# Altium footprint library TSON-Advance-8(3.1X3.1).PcbLib: 1 footprints
Each footprint in its own frame and in the unit in brackets; x right, y up, seen from the top. Pads: shape width x height; smd on the part's side, far side on the other; paste and mask are expansions set on the pad; w line width, h text height; cw(c..) or ccw(c..) is an arc to the next point about the centre after c.
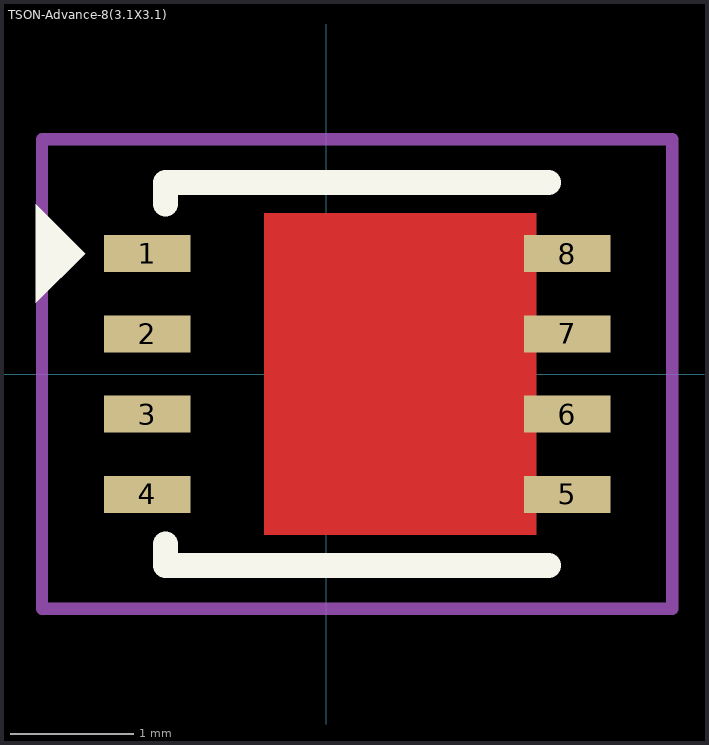
[diagram p0: the footprint, top view; thin cyan lines are the x and y axes]

## TSON-Advance-8(3.1X3.1) [mm]
pads (8):
  rect 0.7x0.3 smd: 1(-1.45,0.975) 2(-1.45,0.325) 3(-1.45,-0.325) 4(-1.45,-0.975) 5(1.95,-0.975) 6(1.95,-0.325) 7(1.95,0.325) 8(1.95,0.975)
Top Layer:
  region: -0.5,1.3 1.7,1.3 1.7,-1.3 -0.5,-1.3
Top Overlay:
  region: -2.35,0.575 -2.35,1.375 -1.95,0.975
  lines w0.2: -1.3,-1.375 -1.3,-1.55 1.8,-1.55 ; -1.3,1.375 -1.3,1.55 1.8,1.55
Top Courtyard:
  lines w0.1: -2.3,-1.9 -2.3,1.9 2.8,1.9 2.8,-1.9 -2.3,-1.9
3D body "TSON_Advance_WF.step": height 0.85, standoff 0, extent -1.55,-1.65 2.05,1.65